# EAGLE library part KAC9619 (library Traficon)
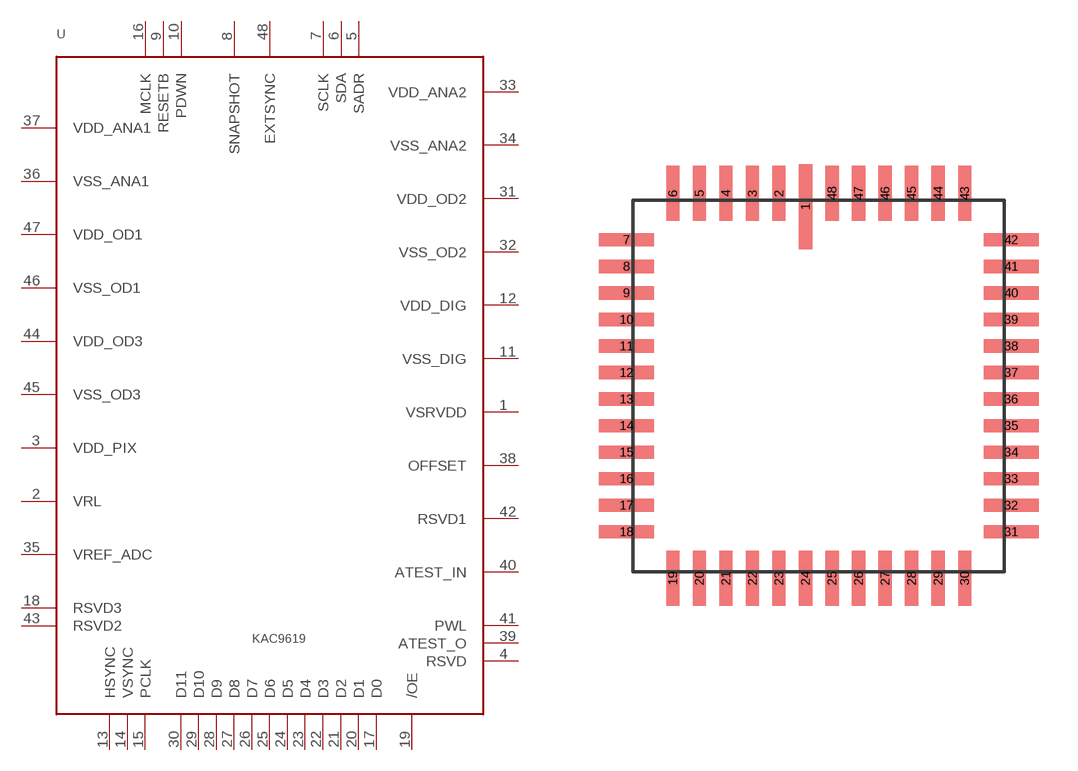
[diagram p19: symbol with the pads of LCC_48; footprint LCC_48]

Designator prefix U

## KAC9619  [LCC_48]
1  VSRVDD  pas
2  VRL  pas
3  VDD_PIX  pas
4  RSVD  pas
5  SADR  in
6  SDA
7  SCLK  in
8  SNAPSHOT  in
9  RESETB  in
10  PDWN  in
11  VSS_DIG  pas
12  VDD_DIG  pas
13  HSYNC  out
14  VSYNC  out
15  PCLK  out
16  MCLK  in
17  D0  out
18  RSVD3  pas
19  /OE  in
20  D1  out
21  D2  out
22  D3  out
23  D4  out
24  D5  out
25  D6  out
26  D7  out
27  D8  out
28  D9  out
29  D10  out
30  D11  out
31  VDD_OD2  pas
32  VSS_OD2  pas
33  VDD_ANA2  pas
34  VSS_ANA2  pas
35  VREF_ADC  pas
36  VSS_ANA1  pas
37  VDD_ANA1  pas
38  OFFSET  pas
39  ATEST_O  pas
40  ATEST_IN  pas
41  PWL  pas
42  RSVD1  pas
43  RSVD2  pas
44  VDD_OD3  pas
45  VSS_OD3  pas
46  VSS_OD1  pas
47  VDD_OD1  pas
48  EXTSYNC  out

## Footprint LCC_48 (pad centres in mm)
smd 0.508 x 3.251: 1 -0.508,6.858
smd 0.508 x 2.108: 2 -1.524,7.366; 3 -2.54,7.366; 4 -3.556,7.366; 5 -4.572,7.366; 6 -5.588,7.366; 19 -5.588,-7.366; 20 -4.572,-7.366; 21 -3.556,-7.366; 22 -2.54,-7.366; 23 -1.524,-7.366; 24 -0.508,-7.366; 25 0.508,-7.366; 26 1.524,-7.366; 27 2.54,-7.366; 28 3.556,-7.366; 29 4.572,-7.366; 30 5.588,-7.366; 43 5.588,7.366; 44 4.572,7.366; 45 3.556,7.366; 46 2.54,7.366; 47 1.524,7.366; 48 0.508,7.366
smd 2.108 x 0.508: 7 -7.366,5.588; 8 -7.366,4.572; 9 -7.366,3.556; 10 -7.366,2.54; 11 -7.366,1.524; 12 -7.366,0.508; 13 -7.366,-0.508; 14 -7.366,-1.524; 15 -7.366,-2.54; 16 -7.366,-3.556; 17 -7.366,-4.572; 18 -7.366,-5.588; 31 7.366,-5.588; 32 7.366,-4.572; 33 7.366,-3.556; 34 7.366,-2.54; 35 7.366,-1.524; 36 7.366,-0.508; 37 7.366,0.508; 38 7.366,1.524; 39 7.366,2.54; 40 7.366,3.556; 41 7.366,4.572; 42 7.366,5.588